# Altium schematic symbol library PDU.SCHLIB: 24 symbols
Pins are listed as number, name and electrical type; pins without a type are passive.

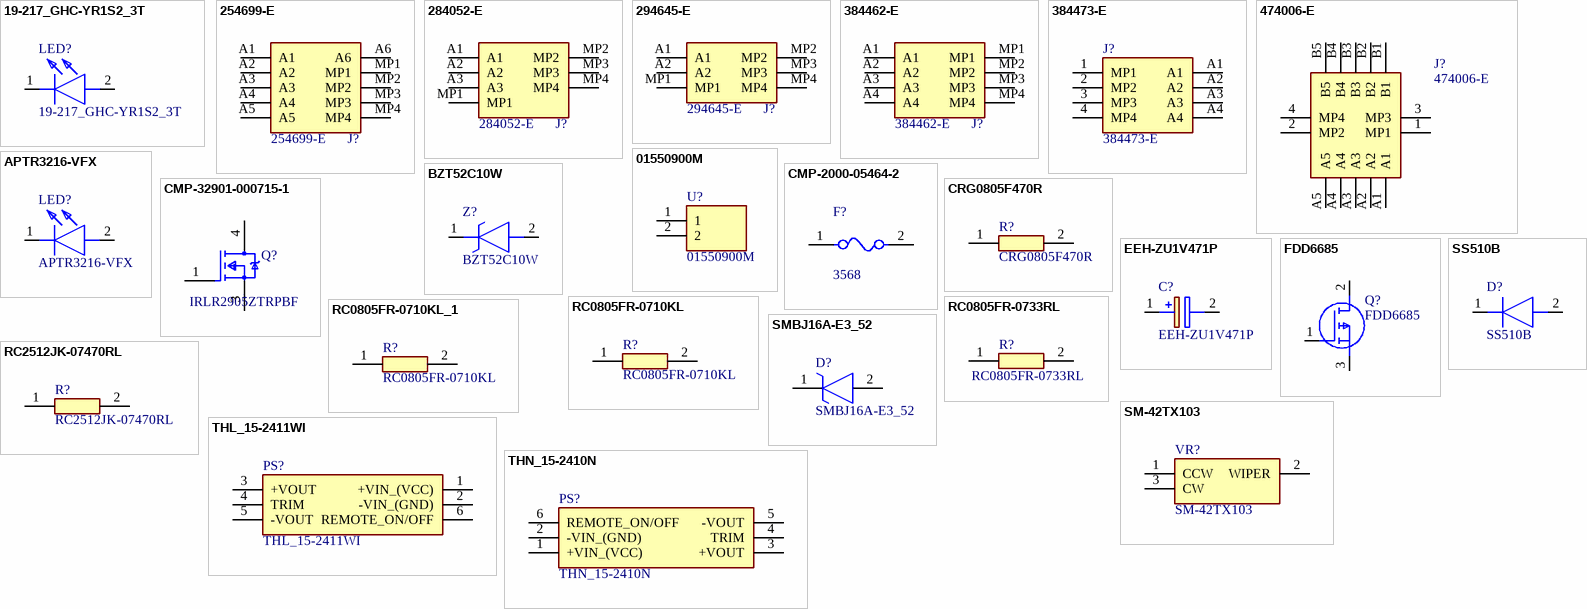
[diagram p0: symbols 19-217_GHC-YR1S2_3T to THN_15-2410N]

## 19-217_GHC-YR1S2_3T
designator LED?
LED; Manufacturer_Name: Everlight; Manufacturer_Part_Number: 19-217/GHC-YR1S2/3T; Datasheet Link: https://www.mouser.co.uk/datasheet/2/143/19-217-GHC-YR1S2-3T-1663276.pdf; Height: 0.5mm; Mouser Part Number: 638-19217GHCYR1S23T; Mouser Price/Stock: https://www.mouser.co.uk/ProductDetail/Everlight/19-217-GHC-YR1S2-3T?qs=8cKuZ6Ok2lZjmFTUzVFjDg%3D%3D; Arrow Part Number: 19-217/GHC-YR1S2/3T; Arrow Price/Stock: https://www.arrow.com/en/products/19-217ghc-yr1s23t/everlight-electronics
footprint LEDC1608X50N
pins: 1 K, 2 A

## 254699-E
designator J?
Connector; Manufacturer_Name: TE Connectivity; Datasheet Link: https://www.te.com/commerce/DocumentDelivery/DDEController?Action=showdoc&DocId=Customer+Drawing%7F224913-E-C%7FE1%7Fpdf%7FGerman%7FGER_CD_224913-E-C_E1.pdf%7F254699-E; Height: 5.05mm; Manufacturer_Part_Number: 254699-E; Mouser Part Number: 305-254699; Mouser Price/Stock: https://www.mouser.co.uk/ProductDetail/TE-Connectivity-ERNI/254699-E?qs=t7xnP681wgU5kHrQQ3QprA%3D%3D; Arrow Part Number: 254699-E; Arrow Price/Stock: null?region=nac
footprint 254699E
pins: A1, A2, A3, A4, A5, A6, MP1, MP2, MP3, MP4

## 284052-E
designator J?
Connector; Manufacturer_Name: TE Connectivity; Datasheet Link: https://www.te.com/commerce/DocumentDelivery/DDEController?Action=showdoc&DocId=Customer+Drawing%7F224919-E%7FE%7Fpdf%7FEnglish%7FENG_CD_224919-E_E.pdf%7F284052-E; Height: 5.05mm; Manufacturer_Part_Number: 284052-E; Mouser Part Number: 305-284052; Mouser Price/Stock: https://www.mouser.co.uk/ProductDetail/TE-Connectivity-ERNI/284052-E?qs=t7xnP681wgU7xBo%252Bl2asHw%3D%3D; Arrow Part Number: 284052-E; Arrow Price/Stock: https://www.arrow.com/en/products/284052-e/te-connectivity?utm_currency=USD&region=nac
footprint 284052E
pins: A1, A2, A3, MP1, MP2, MP3, MP4

## 294645-E
designator J?
Connector; Manufacturer_Name: TE Connectivity; Datasheet Link: https://www.te.com/en/product-294645-E.html; Manufacturer_Part_Number: 294645-E; Mouser Part Number: 305-294645; Mouser Price/Stock: https://www.mouser.co.uk/ProductDetail/TE-Connectivity-ERNI/294645-E?qs=t7xnP681wgVnmJsGnqo%2Fag%3D%3D; Arrow Part Number: 294645-E; Arrow Price/Stock: https://www.arrow.com/en/products/294645-e/te-connectivity?utm_currency=USD&region=nac
footprint 294645E
pins: A1, A2, MP1, MP2, MP3, MP4

## 384462-E
designator J?
Connector; Manufacturer_Name: TE Connectivity; Datasheet Link: https://www.te.com/usa-en/product-384462-E.html; Height: 9.9mm; Manufacturer_Part_Number: 384462-E; Mouser Part Number: 305-384462; Mouser Price/Stock: https://www.mouser.co.uk/ProductDetail/TE-Connectivity-ERNI/384462-E?qs=t7xnP681wgX9Dy4LjYOfWQ%3D%3D; Arrow Part Number: 384462-E; Arrow Price/Stock: https://www.arrow.com/en/products/384462-e/te-connectivity?utm_currency=USD&region=nac
footprint 384462E
pins: A1, A2, A3, A4, MP1, MP2, MP3, MP4

## 384473-E
designator J?
Connector; Manufacturer_Name: TE Connectivity; Datasheet Link: https://www.te.com/en/product-384473-E.datasheet.pdf; Height: 5.05mm; Manufacturer_Part_Number: 384473-E
footprint 384473E
pins: 1 MP1, 2 MP2, 3 MP3, 4 MP4, A1, A2, A3, A4

## 474006-E
designator J?
Connector; Manufacturer_Name: TE Connectivity; Datasheet Link: https://www.te.com/en/product-474006-E.html; Height: 9.4mm; Manufacturer_Part_Number: 474006-E; Mouser Part Number: 305-474006; Mouser Price/Stock: https://www.mouser.co.uk/ProductDetail/TE-Connectivity-ERNI/474006-E?qs=t7xnP681wgWXPbqtCfsedQ%3D%3D; Arrow Part Number: 474006-E; Arrow Price/Stock: https://www.arrow.com/en/products/474006-e/te-connectivity.html?utm_currency=USD&region=nac
footprint 474006E
pins: 1 MP1, 2 MP2, 3 MP3, 4 MP4, A1, A2, A3, A4, A5, B1, B2, B3, B4, B5

## 01550900M
designator U?
Undefined or Miscellaneous; Manufacturer_Name: LITTELFUSE; Datasheet Link: http://www.littelfuse.com/~/media/electronics/datasheets/fuses/littelfuse_fuse_154_154t_154l_154tl_datasheet.pdf.pdf; Height: 3.81mm; Manufacturer_Part_Number: 01550900M; Mouser Part Number: 576-01550900M; Mouser Price/Stock: https://www.mouser.co.uk/ProductDetail/Littelfuse/01550900M?qs=DDoybve0rC%252BTXq1hqi5X1g%3D%3D; Arrow Part Number: 01550900M; Arrow Price/Stock: https://www.arrow.com/en/products/01550900m/littelfuse.html?utm_currency=USD&region=europe
footprint 01550900M
pins: 1, 2

## APTR3216-VFX
designator LED?
LED; Manufacturer_Name: Kingbright; Datasheet Link: https://componentsearchengine.com/Datasheets/1/APTR3216-VFX.pdf; Height: 1.25mm; Manufacturer_Part_Number: APTR3216-VFX; Mouser Part Number: 604-APTR3216-VFX; Mouser Price/Stock: https://www.mouser.co.uk/ProductDetail/Kingbright/APTR3216-VFX?qs=PzGy0jfpSMt1rhGZsZb%2Fqw%3D%3D
footprint LEDC3216X125N
pins: 1 K, 2 A

## BZT52C10W
designator Z?
Zener Diode; Manufacturer_Name: Yageo Group; Datasheet Link: https://www.yageo.com/upload/media/product/products/datasheet/cpc/diode/zener/BZT52CXXW_1.pdf; Height: 1.15mm; Manufacturer_Part_Number: BZT52C10W; Arrow Part Number: BZT52C10W; Arrow Price/Stock: https://www.arrow.com/en/products/bzt52c10w/yageo.html?utm_currency=USD&region=europe
footprint BZT52C10W
pins: 1 K, 2 A

## CMP-2000-05464-2
designator F?, comment 3568
NexarPartId: 8116161; Approvals: UL; Body Material: Nylon; Illumination Type: Illuminated; Voltage Rating (AC): 500V; Current Rating: 20A; Number of Poles: 1; Color: Black; Material: Brass, Nylon, Tin; Depth: 6.73mm; Max Operating Temperature: 145°C; Length: 16mm; Mount: PCB, Vertical; REACH SVHC: No SVHC; Lead Free: Lead Free; Min Operating Temperature: -50°C; Flammability Rating: UL94 V-0; RoHS: Compliant; Orientation: Vertical; Fuse Current: 20A; Termination: PC Pin; Number of Circuits: 1; Contact Plating: Tin; Voltage: 500V; Contact Material: Brass
footprint FP-3568-MFG
pins: 1, 2

## CMP-32901-000715-1
designator Q?, comment IRLR2905ZTRPBF
MOSFET N-CH 55V 42A DPAK; Max Power Dissipation: 110W; Input Capacitance: 1.57nF; Gate to Source Voltage (Vgs): 16V; Drain to Source Resistance: 13.5mR; Turn-On Delay Time: 14ns; Turn-Off Delay Time: 24ns; Max Dual Supply Voltage: 55V; RoHS Compliant: Yes; Number of Pins: 3; Continuous Drain Current (ID): 42A; Power Dissipation: 110W; Height: 0.094inch; Drain to Source Voltage (Vdss): 55V; Case/Package: TO-252-3; Mount: Surface Mount; Lead Free: Contains Lead; Packaging: Cut Tape; Length: 0.264inch; Max Operating Temperature: 175°C; Rds On Max: 13.5mR; Min Operating Temperature: -55°C; Series: HEXFET®; Halogen Free: Halogen Free; Width: 0.245inch
footprint FP-PG-TO252-3-MFG
pins: 1 G, 3 S, 4 D

## CRG0805F470R
designator R?
Resistor; Manufacturer_Name: TE Connectivity; Datasheet Link: https://www.te.com/commerce/DocumentDelivery/DDEController?Action=srchrtrv&DocNm=1773204&DocType=Data%20Sheet&DocLang=English&PartCntxt=1623232-1&DocFormat=pdf; Height: 0.65mm; Manufacturer_Part_Number: CRG0805F470R; Mouser Part Number: 279-CRG0805F470R; Mouser Price/Stock: https://www.mouser.co.uk/ProductDetail/TE-Connectivity-Holsworthy/CRG0805F470R?qs=VHcS2MTj4gY7OTd8XzqSww%3D%3D; Arrow Part Number: CRG0805F470R; Arrow Price/Stock: https://www.arrow.com/en/products/crg0805f470r/te-connectivity?region=nac
footprint RESC2012X65N
pins: 1, 2

## EEH-ZU1V471P
designator C?
Capacitor Polarised; Manufacturer_Name: Panasonic; Datasheet Link: http://industrial.panasonic.com/cdbs/www-data/pdf/RDD0000/ast-ind-156944.pdf; Height: 10.5mm; Manufacturer_Part_Number: EEH-ZU1V471P; Mouser Part Number: 667-EEH-ZU1V471P; Mouser Price/Stock: https://www.mouser.co.uk/ProductDetail/Panasonic/EEH-ZU1V471P?qs=iLbezkQI%252BshMS2dpa58Rhw%3D%3D; Arrow Part Number: EEH-ZU1V471P; Arrow Price/Stock: https://www.arrow.com/en/products/eeh-zu1v471p/panasonic?region=nac
footprint EEHZS1H221P
pins: 1 +, 2 -

## FDD6685
designator Q?
MOSFET (P-Channel); Manufacturer_Name: onsemi; Datasheet Link: https://www.onsemi.com/pub/Collateral/FDD6685-D.PDF; Height: 2.39mm; Manufacturer_Part_Number: FDD6685; Mouser Part Number: 512-FDD6685; Mouser Price/Stock: https://www.mouser.co.uk/ProductDetail/onsemi-Fairchild/FDD6685?qs=lOBONITtCKxDT3dikVb2%252Bg%3D%3D; Arrow Part Number: FDD6685; Arrow Price/Stock: https://www.arrow.com/en/products/fdd6685/on-semiconductor?region=nac
footprint FQD1N80TM
pins: 1 G, 2 D, 3 S

## RC0805FR-0710KL
designator R?
Resistor; Manufacturer_Name: Yageo Group; Datasheet Link: https://www.yageo.com/upload/media/product/productsearch/datasheet/rchip/PYu-RC_Group_51_RoHS_L_11.pdf; Height: 0.6mm; Manufacturer_Part_Number: RC0805FR-0710KL; Mouser Part Number: 603-RC0805FR-0710KL; Mouser Price/Stock: https://www.mouser.co.uk/ProductDetail/YAGEO/RC0805FR-0710KL?qs=7bY8808IzHq6vrU3BeiiYw%3D%3D; Arrow Part Number: RC0805FR-0710KL; Arrow Price/Stock: https://www.arrow.com/en/products/rc0805fr-0710kl/yageo.html?utm_currency=USD&region=europe
footprint RESC2012X60N
pins: 1, 2

## RC0805FR-0710KL_1
designator R?, comment RC0805FR-0710KL
Resistor; Manufacturer_Name: Yageo Group; Datasheet Link: https://www.yageo.com/upload/media/product/productsearch/datasheet/rchip/PYu-RC_Group_51_RoHS_L_11.pdf; Height: 0.6mm; Manufacturer_Part_Number: RC0805FR-0710KL; Mouser Part Number: 603-RC0805FR-0710KL; Mouser Price/Stock: https://www.mouser.co.uk/ProductDetail/YAGEO/RC0805FR-0710KL?qs=7bY8808IzHq6vrU3BeiiYw%3D%3D; Arrow Part Number: RC0805FR-0710KL; Arrow Price/Stock: https://www.arrow.com/en/products/rc0805fr-0710kl/yageo.html?utm_currency=USD&region=europe
footprint RESC2012X60N
pins: 1, 2

## RC0805FR-0733RL
designator R?
Resistor; Manufacturer_Name: Yageo Group; Datasheet Link: https://www.yageo.com/upload/media/product/productsearch/datasheet/rchip/PYu-RC_Group_51_RoHS_L_12.pdf; Height: 0.6mm; Manufacturer_Part_Number: RC0805FR-0733RL; Mouser Part Number: 603-RC0805FR-0733RL; Mouser Price/Stock: https://www.mouser.co.uk/ProductDetail/YAGEO/RC0805FR-0733RL?qs=g6xwsc4j%252B%2Fq7KbipsIEOLQ%3D%3D; Arrow Part Number: RC0805FR-0733RL; Arrow Price/Stock: https://www.arrow.com/en/products/rc0805fr-0733rl/yageo?region=nac
footprint RESC2012X60N
pins: 1, 2

## RC2512JK-07470RL
designator R?
Resistor; Manufacturer_Name: Yageo Group; Datasheet Link: https://componentsearchengine.com/Datasheets/2/RC2512JK-07470RL.pdf; Height: 0.65mm; Manufacturer_Part_Number: RC2512JK-07470RL; Mouser Part Number: 603-RC2512JK-07470RL; Mouser Price/Stock: https://www.mouser.com/Search/Refine.aspx?Keyword=603-RC2512JK-07470RL; Arrow Part Number: RC2512JK-07470RL; Arrow Price/Stock: https://www.arrow.com/en/products/rc2512jk-07470rl/yageo
footprint RESC6431X65N
pins: 1, 2

## SM-42TX103
designator VR?
Variable Resistor; Manufacturer_Name: Nidec Copal; Datasheet Link: https://www.nidec-copal-electronics.com/e/catalog/trimmer/sm-42&sm-43.pdf; Height: 5.3mm; Manufacturer_Part_Number: SM-42TX103; Mouser Part Number: 229-SM-42TX103; Mouser Price/Stock: https://www.mouser.co.uk/ProductDetail/Nidec-Components/SM-42TX103?qs=XeJtXLiO41SMjpR%2FkLkejw%3D%3D
footprint SM42TX103
pins: 1 CCW, 2 WIPER, 3 CW

## SMBJ16A-E3_52
designator D?
TVS Diode (Uni-directional); Manufacturer_Name: Vishay; Manufacturer_Part_Number: SMBJ16A-E3/52; Datasheet Link: http://www.vishay.com/docs/88392/smbj.pdf; Height: 2.44mm; Mouser Part Number: 625-SMBJ16A-E3; Mouser Price/Stock: https://www.mouser.co.uk/ProductDetail/Vishay-General-Semiconductor/SMBJ16A-E3-52?qs=3qLEwsAJF5T7oi0PUWfV9A%3D%3D; Arrow Part Number: SMBJ16A-E3/52; Arrow Price/Stock: https://www.arrow.com/en/products/smbj16a-e352/vishay?utm_currency=USD&region=nac
footprint DIOM5436X244N
pins: 1 K, 2 A

## SS510B
designator D?
Diode; Manufacturer_Name: HY Electronic; Height: 2.44mm; Manufacturer_Part_Number: SS510B
footprint DIOM5336X244N
pins: 1 K, 2 A

## THL_15-2411WI
designator PS?
Power Supply; Manufacturer_Name: Traco Power; Manufacturer_Part_Number: THL 15-2411WI; Datasheet Link: https://tracopower.com/thl15wi-datasheet/; Mouser Part Number: 495-THL15-2411WI; Mouser Price/Stock: https://www.mouser.co.uk/ProductDetail/TRACO-Power/THL-15-2411WI?qs=vLWxofP3U2zTxW0y6%2FAPOg%3D%3D
footprint THL152411WI
pins: 1 +VIN_(VCC), 2 -VIN_(GND), 3 +VOUT, 4 TRIM, 5 -VOUT, 6 REMOTE_ON/OFF

## THN_15-2410N
designator PS?
Power Supply; Manufacturer_Name: Traco Power; Manufacturer_Part_Number: THN 15-2410N; Datasheet Link: https://tracopower.com/thn15n-datasheet/; Height: 10.4mm; Mouser Part Number: 495-THN15-2410N; Mouser Price/Stock: https://www.mouser.co.uk/ProductDetail/TRACO-Power/THN-15-2410N?qs=lc2O%252BfHJPVZmX9t5SPwnew%3D%3D
footprint THN152410N
pins: 1 +VIN_(VCC), 2 -VIN_(GND), 3 +VOUT, 4 TRIM, 5 -VOUT, 6 REMOTE_ON/OFF